# Altium footprint library BridgeC.PcbLib: 38 footprints (part 2 of 3)
Each footprint in its own frame and in the unit in brackets; x right, y up, seen from the top. Pads: shape width x height; smd on the part's side, far side on the other; paste and mask are expansions set on the pad; w line width, h text height; cw(c..) or ccw(c..) is an arc to the next point about the centre after c.
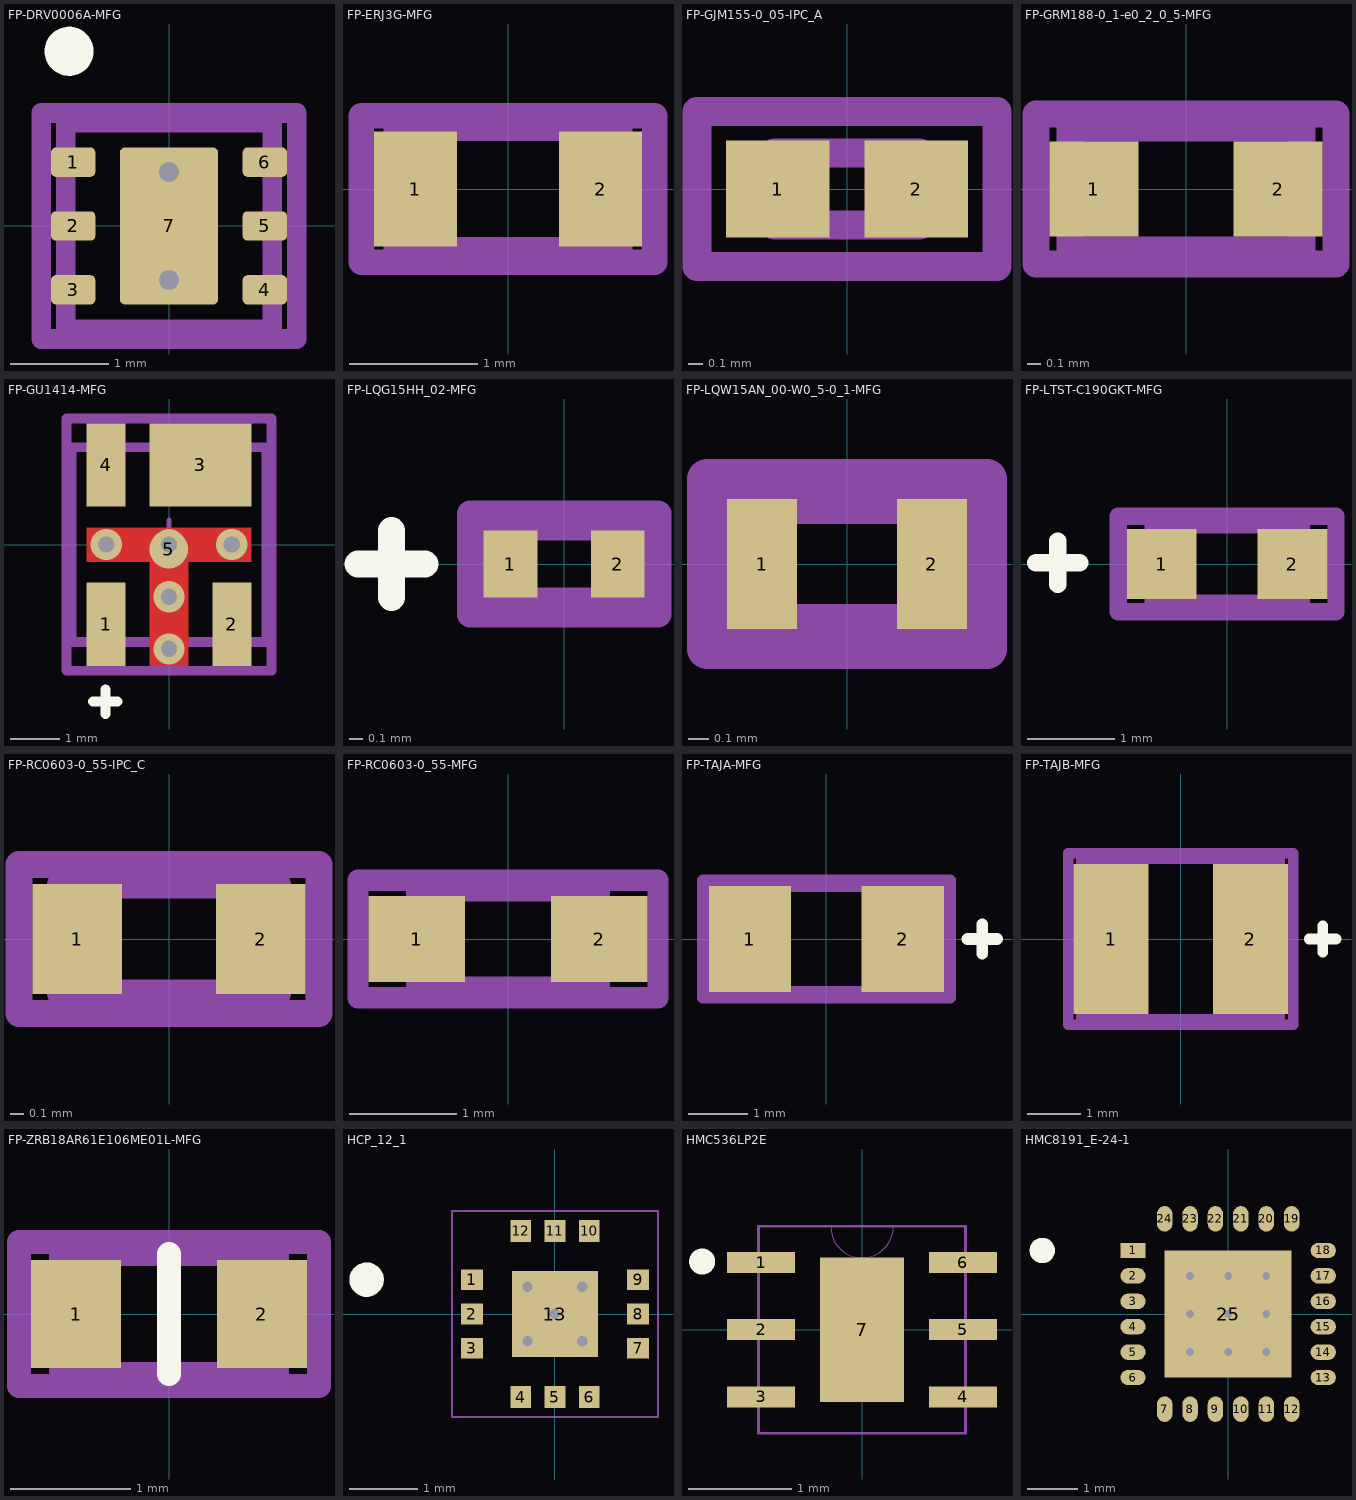
[diagram p1: the footprints below, top view; thin cyan lines are the x and y axes]

## FP-DRV0006A-MFG [mm]
pads (7):
  rrect33% 0.45x0.3 smd paste+0 mask+0: 1(-0.975,0.65) 2(-0.975,0) 3(-0.975,-0.65) 4(0.975,-0.65) 5(0.975,0) 6(0.975,0.65)
  rrect10% 1x1.6 smd paste-1000 mask+0: 7(0,0)
via 0,-0.55 diameter 0.5 hole 0.2
via 0,0.55 diameter 0.5 hole 0.2
Top Overlay:
  circle w0.25: c-1.016,1.778 r0.125
Top Paste:
  region: -0.5,-0.15 -0.5,-0.14 -0.492,-0.122 -0.478,-0.108 -0.46,-0.1 -0.45,-0.1 0.45,-0.1 0.46,-0.1 0.478,-0.108 0.492,-0.122 0.5,-0.14 0.5,-0.15 0.5,-0.75 0.5,-0.76 0.492,-0.778 0.478,-0.792 0.46,-0.8 0.45,-0.8 -0.45,-0.8 -0.46,-0.8 -0.478,-0.792 -0.492,-0.778 -0.5,-0.76 -0.5,-0.75
  region: 0.45,0.8 0.46,0.8 0.478,0.792 0.492,0.778 0.5,0.76 0.5,0.75 0.5,0.15 0.5,0.14 0.492,0.122 0.478,0.108 0.46,0.1 0.45,0.1 -0.45,0.1 -0.46,0.1 -0.478,0.108 -0.492,0.122 -0.5,0.14 -0.5,0.15 -0.5,0.75 -0.5,0.76 -0.492,0.778 -0.478,0.792 -0.46,0.8 -0.45,0.8
Top 3D Body:
  lines w0.2: -1.05,-1.05 -1.05,1.05 1.05,1.05 1.05,-1.05 -1.05,-1.05
Top Courtyard:
  lines w0.2: -1.3,-1.15 -1.3,1.15 1.3,1.15 1.3,-1.15 -1.3,-1.15
Top Assembly:
  lines w0.2: -1.3,-1.15 -1.3,1.15 1.3,1.15 1.3,-1.15 -1.3,-1.15
  text ".Designator" at 1.651,-0.066 h1
3D body "IC_Texas_Instruments_TPS7A2501DRVR_eec.STEP": height 0.25, standoff 0, extent -1.3,-1.15 1.3,1.15

## FP-ERJ3G-MFG [mm]
pads (2):
  rect 0.65x0.9 smd paste+0 mask+0: 1(-0.725,0) 2(0.725,0)
Top 3D Body:
  lines w0.2: -0.875,-0.475 0.875,-0.475 0.875,0.475 -0.875,0.475 -0.875,-0.475
Top Courtyard:
  lines w0.2: -1.15,-0.575 1.15,-0.575 1.15,0.575 -1.15,0.575 -1.15,-0.575
Top Assembly:
  lines w0.2: -1.15,-0.575 1.15,-0.575 1.15,0.575 -1.15,0.575 -1.15,-0.575
  text ".Designator" at 1.397,-0.32 h1
3D body "Res_Panasonic_ERJ-3GEYJ102V_eec.STEP": height 0.25, standoff 0, extent -1.15,-0.575 1.15,0.575

## FP-GJM155-0_05-IPC_A [mm]
pads (2):
  rect 0.715x0.672 smd paste+0 mask+0: 1(-0.479,0) 2(0.479,0)
Top 3D Body:
  lines w0.2: -0.5,-0.25 -0.5,0.25 0.5,0.25 0.5,-0.25 -0.5,-0.25
Top Courtyard:
  lines w0.2: -1.036,-0.536 -1.036,0.536 1.036,0.536 1.036,-0.536 -1.036,-0.536
Top Assembly:
  lines w0.2: -1.036,-0.536 -1.036,0.536 1.036,0.536 1.036,-0.536 -1.036,-0.536
  text ".Designator" at 1.397,-0.193 h1
3D body "Cap_Murata_GJM1551C1H7R0DB01D_eec.STEP": height 0.25, standoff 0, extent -1.036,-0.536 1.036,0.536

## FP-GRM188-0_1-e0_2_0_5-MFG [mm]
pads (2):
  rect 0.65x0.7 smd paste+0 mask+0: 1(-0.675,0) 2(0.675,0)
Top 3D Body:
  lines w0.2: -0.85,-0.45 0.85,-0.45 0.85,0.45 -0.85,0.45 -0.85,-0.45
Top Courtyard:
  lines w0.2: -1.1,-0.55 1.1,-0.55 1.1,0.55 -1.1,0.55 -1.1,-0.55
Top Assembly:
  lines w0.2: -1.1,-0.55 1.1,-0.55 1.1,0.55 -1.1,0.55 -1.1,-0.55
  text ".Designator" at 1.524,-0.193 h1
3D body "Cap_Murata_GRM188R61E225KA12D_eec.STEP": height 0.25, standoff 0, extent -1.1,-0.55 1.1,0.55

## FP-GU1414-MFG [mm]
pads (5):
  rect 0.79x1.68 smd paste+0 mask+0: 1(-1.27,-1.61) 2(1.27,-1.61) 4(-1.27,1.61)
  rect 2.06x1.68 smd paste+0 mask+0: 3(0.635,1.61)
  round 0.786 smd paste+0 mask+0: 5(-0.005,-0.094)
via -1.27,0 diameter 0.63 hole 0.33
via 0,0 diameter 0.63 hole 0.33
via 1.27,0 diameter 0.63 hole 0.33
via 0,-1.054 diameter 0.63 hole 0.33
via 0,-2.108 diameter 0.63 hole 0.33
Top Layer:
  region: -1.664,-0.343 -1.664,0.343 1.664,0.343 1.664,-0.343 0.394,-0.343 0.394,-2.451 -0.394,-2.451 -0.394,-0.343
Top Overlay:
  lines w0.2: -1.287,-3.425 -1.287,-2.925
  lines w0.203: -1.537,-3.175 -1.037,-3.175
Top 3D Body:
  lines w0.2: -1.968,-1.968 1.968,-1.968 1.968,1.968 -1.968,1.968 -1.968,-1.968
Top Courtyard:
  lines w0.2: -2.068,-2.551 2.068,-2.551 2.068,2.55 -2.068,2.55 -2.068,-2.551
Top Assembly:
  lines w0.2: -2.068,-2.551 2.068,-2.551 2.068,2.55 -2.068,2.55 -2.068,-2.551
  text ".Designator" at 2.413,-0.066 h1
Top Component Center:
  lines w0.1: -0.5,0 0.5,0 ; 0,-0.5 0,0.5
3D body "Filter_Mini-Circuits_TCBT-123+_eec.STEP": height 0.25, standoff 0, extent -2.068,-2.551 2.068,2.55

## FP-LQG15HH_02-MFG [mm]
pads (2):
  rect 0.4x0.5 smd paste+0 mask+0: 1(-0.4,0) 2(0.4,0)
Top Overlay:
  lines w0.2: -1.287,-0.25 -1.287,0.25
  lines w0.203: -1.537,0 -1.037,0
Top 3D Body:
  lines w0.2: -0.525,-0.275 -0.525,0.275 0.525,0.275 0.525,-0.275 -0.525,-0.275
Top Courtyard:
  lines w0.2: -0.7,-0.375 -0.7,0.375 0.7,0.375 0.7,-0.375 -0.7,-0.375
Top Assembly:
  lines w0.2: -0.7,-0.375 -0.7,0.375 0.7,0.375 0.7,-0.375 -0.7,-0.375
  text ".Designator" at 1.016,-0.32 h1
3D body "Ind_Murata_LQG15HN39NJ02D_eec.STEP": height 0.25, standoff 0, extent -0.7,-0.375 0.7,0.375

## FP-LQW15AN_00-W0_5-0_1-MFG [mm]
pads (2):
  rect 0.35x0.65 smd paste+0 mask+0: 1(-0.425,0) 2(0.425,0)
Top 3D Body:
  lines w0.2: -0.55,-0.3 -0.55,0.3 0.55,0.3 0.55,-0.3 -0.55,-0.3
Top Courtyard:
  lines w0.2: -0.7,-0.425 -0.7,0.425 0.7,0.425 0.7,-0.425 -0.7,-0.425
Top Assembly:
  lines w0.2: -0.7,-0.425 -0.7,0.425 0.7,0.425 0.7,-0.425 -0.7,-0.425
  text ".Designator" at 1.016,-0.32 h1
3D body "Ind_Murata_LQW15AN24NG00B_eec.STEP": height 0.25, standoff 0, extent -0.7,-0.425 0.7,0.425

## FP-LTST-C190GKT-MFG [mm]
pads (2):
  rect 0.8x0.8 smd paste+0 mask+0: 1(-0.75,0) 2(0.75,0)
Top Overlay:
  lines w0.2: -1.946,-0.236 -1.946,0.264
  lines w0.203: -2.196,0.014 -1.696,0.014
Top 3D Body:
  lines w0.2: -0.85,-0.45 -0.85,0.45 0.85,0.45 0.85,-0.45 -0.85,-0.45
Top Courtyard:
  lines w0.2: -1.25,-0.55 -1.25,0.55 1.25,0.55 1.25,-0.55 -1.25,-0.55
Top Assembly:
  lines w0.2: -1.25,-0.55 -1.25,0.55 1.25,0.55 1.25,-0.55 -1.25,-0.55
  text ".Designator" at 1.651,-0.32 h1
3D body "Diode_Lite-On_LTST-C190GKT_eec.STEP": height 0.25, standoff 0, extent -1.25,-0.55 1.25,0.55

## FP-RC0603-0_55-IPC_C [mm]
pads (2):
  rect 0.659x0.812 smd paste+0 mask+0: 1(-0.677,0) 2(0.677,0)
Top 3D Body:
  lines w0.2: -0.8,-0.4 -0.8,0.4 0.8,0.4 0.8,-0.4 -0.8,-0.4
Top Courtyard:
  lines w0.2: -1.106,-0.55 -1.106,0.55 1.106,0.55 1.106,-0.55 -1.106,-0.55
Top Assembly:
  lines w0.2: -1.106,-0.55 -1.106,0.55 1.106,0.55 1.106,-0.55 -1.106,-0.55
  text ".Designator" at 1.397,-0.193 h1
3D body "Res_Yageo_RC0603FR-07100KL_eec.STEP": height 0.25, standoff 0, extent -1.106,-0.55 1.106,0.55

## FP-RC0603-0_55-MFG [mm]
pads (2):
  rect 0.9x0.8 smd paste+0 mask+0: 1(-0.85,0) 2(0.85,0)
Top 3D Body:
  lines w0.2: -0.85,-0.45 0.85,-0.45 0.85,0.45 -0.85,0.45 -0.85,-0.45
Top Courtyard:
  lines w0.2: -1.4,-0.55 1.4,-0.55 1.4,0.55 -1.4,0.55 -1.4,-0.55
Top Assembly:
  lines w0.2: -1.4,-0.55 -1.4,0.55 1.4,0.55 1.4,-0.55 -1.4,-0.55
  text ".Designator" at 1.651,-0.193 h1
3D body "Res_YAGEO_RC0603JR-07100RL_eec.STEP": height 0.25, standoff 0, extent -1.4,-0.55 1.4,0.55

## FP-TAJA-MFG [mm]
pads (2):
  rect 1.4x1.8 smd paste+0 mask+0: 1(-1.3,0) 2(1.3,0)
Top Overlay:
  lines w0.2: 2.65,-0.25 2.65,0.25
  lines w0.203: 2.4,0 2.9,0
Top 3D Body:
  lines w0.2: -1.7,-0.9 1.7,-0.9 1.7,0.9 -1.7,0.9 -1.7,-0.9
Top Courtyard:
  lines w0.2: -2.1,-1 2.1,-1 2.1,1 -2.1,1 -2.1,-1
Top Assembly:
  lines w0.2: -2.1,-1 2.1,-1 2.1,1 -2.1,1 -2.1,-1
  text ".Designator" at 3.048,-0.193 h1
3D body "Cap_AVX_TAJA476K002RNJ_eec.STEP": height 0.25, standoff 0, extent -2.1,-1 2.1,1

## FP-TAJB-MFG [mm]
pads (2):
  rect 1.4x2.8 smd paste+0 mask+0: 1(-1.3,0) 2(1.3,0)
Top Overlay:
  lines w0.2: 2.4,0 2.9,0 ; 2.65,-0.25 2.65,0.25
Top 3D Body:
  lines w0.2: -1.85,-1.5 1.85,-1.5 1.85,1.5 -1.85,1.5 -1.85,-1.5
Top Courtyard:
  lines w0.2: -2.1,-1.6 2.1,-1.6 2.1,1.6 -2.1,1.6 -2.1,-1.6
Top Assembly:
  lines w0.2: -2.1,-1.6 -2.1,1.6 2.1,1.6 2.1,-1.6 -2.1,-1.6
  text ".Designator" at 2.413,0.696 h1
3D body "Cap_AVX_TAJB335M035RNJ_eec.STEP": height 0.25, standoff 0, extent -2.1,-1.6 2.1,1.6

## FP-ZRB18AR61E106ME01L-MFG [mm]
pads (2):
  rect 0.75x0.9 smd paste+0 mask+0: 1(-0.775,0) 2(0.775,0)
Top Overlay:
  lines w0.2: 0,-0.5 0,0.5
Top 3D Body:
  lines w0.2: -0.9,-0.5 -0.9,0.5 0.9,0.5 0.9,-0.5 -0.9,-0.5
Top Courtyard:
  lines w0.2: -1.25,-0.6 -1.25,0.6 1.25,0.6 1.25,-0.6 -1.25,-0.6
Top Assembly:
  lines w0.2: -1.25,-0.6 -1.25,0.6 1.25,0.6 1.25,-0.6 -1.25,-0.6
  text ".Designator" at 1.524,-0.193 h1
Top Component Center:
  lines w0.1: 0,-0.5 0,0.5
3D body "Cap_Murata_Electronics_ZRB18AR61E106ME01L_eec.STEP": height 0.25, standoff 0, extent -1.25,-0.6 1.25,0.6

## HCP_12_1 [mm] "HMC814LC3B QFN12"
pads (13):
  rect 0.32x0.3 smd paste+0 mask+0: 1(-1.21,0.5) 2(-1.21,0) 3(-1.21,-0.5) 7(1.21,-0.5) 8(1.21,0) 9(1.21,0.5)
  rect 0.3x0.32 smd paste+0 mask+0: 4(-0.5,-1.21) 5(0,-1.21) 6(0.5,-1.21) 10(0.5,1.21) 11(0,1.21) 12(-0.5,1.21)
  rect 1.25x1.25 smd paste-0.612 mask+0: 13(0,0)
via -0.4,0.4 diameter 0.305 hole 0.152
via 0.4,-0.4 diameter 0.305 hole 0.152
via -0.4,-0.4 diameter 0.305 hole 0.152
via 0.4,0.4 diameter 0.305 hole 0.152
via 0,0 diameter 0.305 hole 0.152
Top Overlay:
  circle w0.25: c-2.743,0.5 r0.125
Top Paste:
  region: 0.625,0.625 -0.625,0.625 -0.625,-0.625 0.625,-0.625
Mechanical 13:
  lines w0.025: -1.5,-1.5 1.5,-1.5 1.5,1.5 -1.5,1.5 -1.5,-1.5 ; -1.5,-0.65 -1.5,-0.35 -1.5,-0.65 ; -1.5,-0.15 -1.5,0.15 -1.5,-0.15 ; -1.5,0.35 -1.5,0.65 -1.5,0.35 ; -0.65,-1.5 -0.35,-1.5 -0.65,-1.5 ; -0.65,1.5 -0.35,1.5 -0.65,1.5 ; -0.15,-1.5 0.15,-1.5 -0.15,-1.5 ; -0.15,1.5 0.15,1.5 -0.15,1.5 ; 0.35,-1.5 0.65,-1.5 0.35,-1.5 ; 0.35,1.5 0.65,1.5 0.35,1.5 ; 1.5,-0.65 1.5,-0.35 1.5,-0.65 ; 1.5,-0.15 1.5,0.15 1.5,-0.15 ; 1.5,0.35 1.5,0.65 1.5,0.35
3D body "HMC814LC3BTR.step": height 0.92, standoff 0, extent -1.5,-1.5 1.5,1.5

## HMC536LP2E [mil]
pads (7):
  rect 26x8 smd paste+0 mask+0: 1(-38.5,25.59) 2(-38.5,0) 3(-38.5,-25.59) 4(38.5,-25.59) 5(38.5,0) 6(38.5,25.59)
  rect 32x55 smd paste+0 mask+0: 7(0,0)
Top Overlay:
  circle w6: c-61,26 r1.97
Mechanical 13:
  lines w0: -12,39.5 ccw(c0,39.5) 12,39.5
  lines w1: -39.5,-39.5 -39.5,39.5 39.5,39.5 39.5,-39.5 -39.5,-39.5
3D body "DFN_6_ADI.step": height 39.09, standoff 0, extent -39.49,-39.49 39.49,39.49

## HMC8191_E-24-1 [mm] "HMC8191_E-24-1"
height 1
pads (25):
  rect 0.5x0.305 smd mask+0.025: 1(-1.872,1.25)
  oval 0.5x0.305 smd mask+0.025: 2(-1.872,0.75) 3(-1.872,0.25) 4(-1.872,-0.25) 5(-1.872,-0.75) 6(-1.872,-1.25) 13(1.872,-1.25) 14(1.872,-0.75) 15(1.872,-0.25) 16(1.872,0.25) 17(1.872,0.75) 18(1.872,1.25)
  oval 0.305x0.5 smd mask+0.025: 7(-1.25,-1.872) 8(-0.75,-1.872) 9(-0.25,-1.872) 10(0.25,-1.872) 11(0.75,-1.872) 12(1.25,-1.872) 19(1.25,1.872) 20(0.75,1.872) 21(0.25,1.872) 22(-0.25,1.872) 23(-0.75,1.872) 24(-1.25,1.872)
  rect 2.5x2.5 smd paste-1.237 mask+0.025: 25(0,0)
via 0,0 diameter 0.305 hole 0.152
via 0.75,0.75 diameter 0.305 hole 0.152
via 0,0.75 diameter 0.305 hole 0.152
via -0.75,0.75 diameter 0.305 hole 0.152
via -0.75,0 diameter 0.305 hole 0.152
via -0.75,-0.75 diameter 0.305 hole 0.152
via 0,-0.75 diameter 0.305 hole 0.152
via 0.75,-0.75 diameter 0.305 hole 0.152
via 0.75,0 diameter 0.305 hole 0.152
Top Overlay:
  circle w0.25: c-3.658,1.25 r0.125
Top Paste:
  region: 1.25,1.25 -1.25,1.25 -1.25,-1.25 1.25,-1.25
3D body: height 0.25, standoff 0, extent 0,0 0.254,0.254
3D body "HMC8191LC4.step": height 1.02, standoff 0, extent -2,-2 2,2